# EAGLE library part CD74HC4050? (library ti)
High-Speed CMOS Logic Hex Buffers, Non-Inverting High-to-Low Voltage Level Converter for up to V_i = 16V
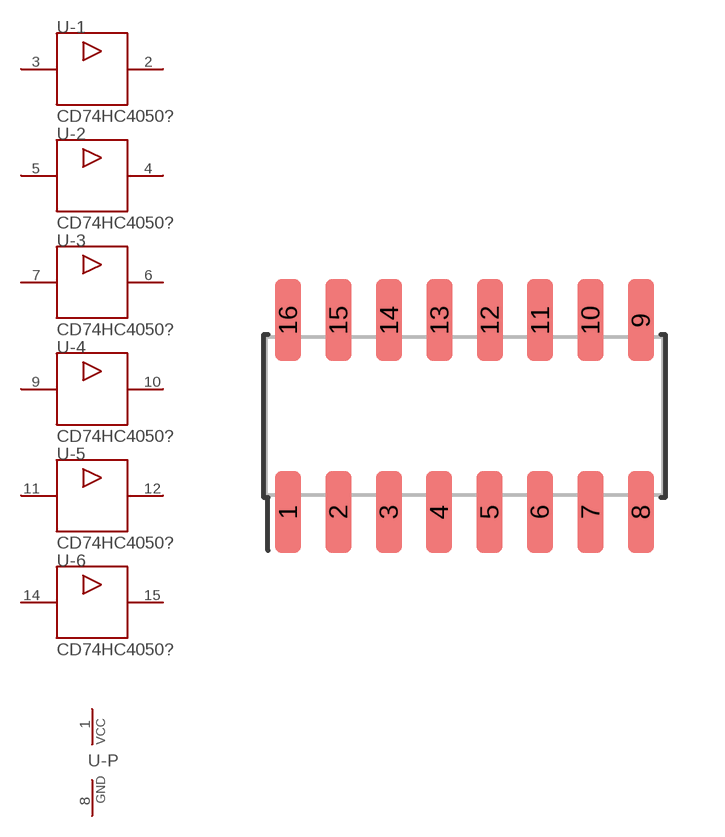
[diagram p1: symbol with the pads of SOIC16P127_990X600X175L84X36T0X0N_10X20X0L44X15; footprint SOIC16P127_990X600X175L84X36T0X0N_10X20X0L44X15]

Designator prefix U; gates -1=CD74HC4050_BUFFER -2=CD74HC4050_BUFFER -3=CD74HC4050_BUFFER -4=CD74HC4050_BUFFER -5=CD74HC4050_BUFFER -6=CD74HC4050_BUFFER -P=CMOS_POWER

## CD74HC4050M (HEIGHT: 1.75; IDF_FAMILYNAME: JEDEC_MS-012F; IDF_PARTNUMBER: AC; PARTNUMBER: CD74HC4050M)  [SOIC16P127_990X600X175L84X36T0X0N_10X20X0L44X15]
1  -P:VCC  pwr
2  -1:Y  out
3  -1:A  in
4  -2:Y  out
5  -2:A  in
6  -3:Y  out
7  -3:A  in
8  -P:GND  pwr
9  -4:A  in
10  -4:Y  out
11  -5:A  in
12  -5:Y  out
14  -6:A  in
15  -6:Y  out

## Footprint SOIC16P127_990X600X175L84X36T0X0N_10X20X0L44X15 (pad centres in mm)
Small Outline Integrated Circuit (16 pins, 1.27mm pitch) Nominal Material Condition Body (LxWxH): 9.90mm x 3.90mm x 1.75mm Lead (L): 0.83mm IPC Component Parameters materialCondition | 1 | Nominal (Nominal Density) n | 16 e | 1.270000 A | 1.750000 | 1.750000 D | 9.800000 | 10.000000 E | 5.800000 | 6.200000 E1 | 3.800000 | 4.000000 b | 0.210000 | 0.510000 L | 0.400000 | 1.270000 ep_D2 | 0.000000 ep_E2 | 0.000000 ep_tr | 0.000000 ep_tc | 0.000000 ep_pmc | 100.000000 ep_pmp | 0 | solid ep_pmspace | 0.500000 IPC Library Parameters fabTol | 0.050000 placeTol | 0.025000 padPlaceRoundOff | 0.010000 padSizeRoundOff | 0.010000 cornerRadius | 25.000000 cornerRadiusLimit | 0.250000 cornerRadiusRoundOff | 0.010000 thtPadSizeRoundOff | 0.010000 thtCourtyardExcess | 0.250000 thtCourtyardRound | 0.010000 thtHoleOverRoundLead | 0.200000 thtHoleOverRectangularLead | 0.150000 thtMinimumAnnularRing | 0.200000 thtPadToHoleRatio | 1.500000 courtyardLineWidth | 0.050000 legendLineWidth | 0.100000 | 0.120000 | 0.150000 legendClearance | 0.100000 | 0.120000 | 0.150000 legendFontHeight | 1.000000 | 1.200000 | 1.500000 legendFontRatio | 10.000000 legendRoundOff | 0.010000 componentFontHeight | 2.000000 componentLineWidth | 0.100000 componentRoundOff | 0.010000 Package generated by: sop.ulp
smd 0.66 x 2.07: 1 -4.45,-2.42; 2 -3.18,-2.42; 3 -1.91,-2.42; 4 -0.64,-2.42; 5 0.63,-2.42; 6 1.9,-2.42; 7 3.18,-2.42; 8 4.45,-2.42; 9 4.45,2.42; 10 3.18,2.42; 11 1.91,2.42; 12 0.64,2.42; 13 -0.63,2.42; 14 -1.9,2.42; 15 -3.18,2.42; 16 -4.45,2.42